# Altium schematic symbol library Components.SchLib: 2 symbols
Pins are listed as number, name and electrical type; pins without a type are passive.

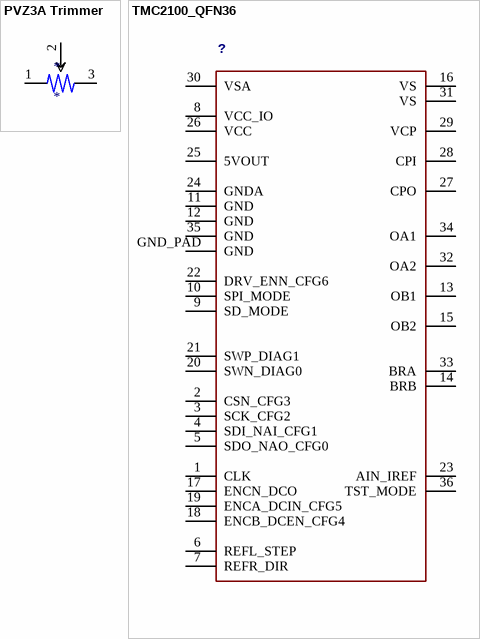
[diagram p0: symbols PVZ3A Trimmer to TMC2100_QFN36]

## PVZ3A Trimmer
designator *
footprint PVZ3A (Trim pot)
pins: 1 CCW, 2 OUT, 3 CW

## TMC2100_QFN36
designator ?
footprint QFN36
pins: 1 CLK, 2 CSN_CFG3, 3 SCK_CFG2, 4 SDI_NAI_CFG1, 5 SDO_NAO_CFG0, 6 REFL_STEP, 7 REFR_DIR, 8 VCC_IO, 9 SD_MODE, 10 SPI_MODE, 11 GND, 12 GND, 13 OB1, 14 BRB, 15 OB2, 16 VS, 17 ENCN_DCO, 18 ENCB_DCEN_CFG4, 19 ENCA_DCIN_CFG5, 20 SWN_DIAG0, 21 SWP_DIAG1, 22 DRV_ENN_CFG6, 23 AIN_IREF, 24 GNDA, 25 5VOUT, 26 VCC, 27 CPO, 28 CPI, 29 VCP, 30 VSA, 31 VS, 32 OA2, 33 BRA, 34 OA1, 35 GND, 36 TST_MODE, GND_PAD GND